# Altium schematic symbol library ACS711.SchLib: 1 symbol
Pins are listed as number, name and electrical type; pins without a type are passive.

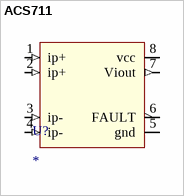
[diagram p0: symbol ACS711]

## ACS711
designator U?
footprint ACS711 (SOIC, 8-Leads, Body 4.90x4.90mm, Pitch 1.27mm, IPC Low Density)
pins: 1 ip+ (in), 2 ip+ (in), 3 ip- (in), 4 ip- (in), 5 gnd, 6 FAULT (oc), 7 Viout (out), 8 vcc